# Altium integrated library ECE-Old.IntLib: 107 symbols
Pins are listed as number, name and electrical type; pins without a type are passive.

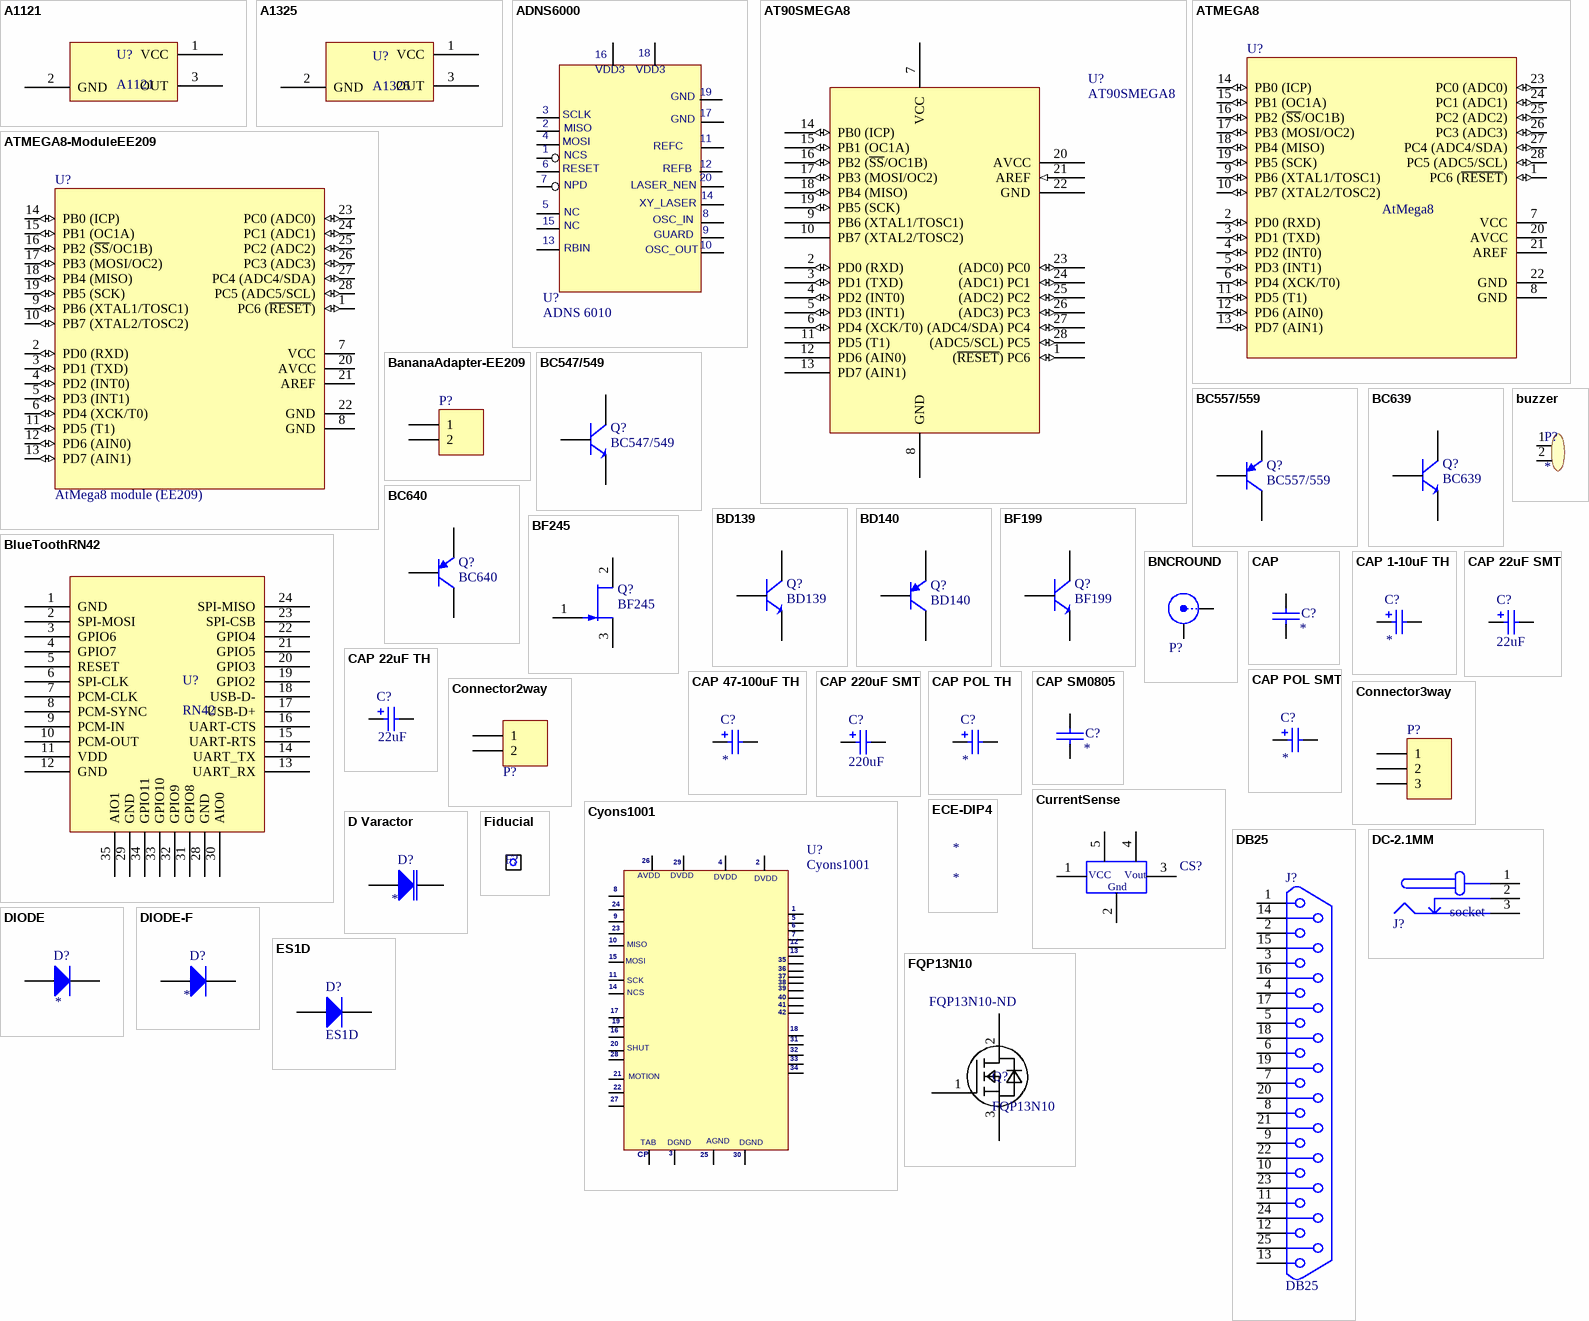
[diagram p0: symbols A1121 to FQP13N10]

## A1121
designator U?
Chopper Stabilized Precision Hall Effect Switches
signal-integrity model A1121 (Digital Hall effect sensor)
footprint ECE-UA3
pins: 1 VCC (power), 2 GND (power), 3 OUT (oc)

## A1325
designator U?
Low Noise, Linear Hall Effect Sensor ICs with Analog Output
footprint ECE-UA3
pins: 1 VCC (power), 2 GND (power), 3 OUT (oc)

## ADNS6000
designator U?, comment ADNS 6010
Avago Laser Sensor; value: ADNS 6010
footprint ece-A6010 (ADNS6010)
pins: 1, 2, 3, 4, 5, 6, 7, 8, 9, 10, 11, 12, 13, 14, 15, 16, 17, 18, 19, 20
text: VDD3; GND; SCLK; MISO; MOSI; REFC; NCS; RESET; REFB; NPD; LASER_NEN; XY_LASER; NC; OSC_IN; GUARD; RBIN; OSC_OUT

## AT90SMEGA8
designator U?
Atmel Micro; Value: AT90SMEGA8
footprint ece-DIP28
pins: 1 (~{RESET}) PC6 (io), 2 PD0 (RXD) (io), 3 PD1 (TXD) (io), 4 PD2 (INT0) (io), 5 PD3 (INT1) (io), 6 PD4 (XCK/T0) (io), 7 VCC, 8 GND, 9 PB6 (XTAL1/TOSC1), 10 PB7 (XTAL2/TOSC2), 11 PD5 (T1), 12 PD6 (AIN0), 13 PD7 (AIN1), 14 PB0 (ICP) (io), 15 PB1 (OC1A) (io), 16 PB2 (~{SS}/OC1B) (io), 17 PB3 (MOSI/OC2) (io), 18 PB4 (MISO) (io), 19 PB5 (SCK) (io), 20 AVCC, 21 AREF (in), 22 GND, 23 (ADC0) PC0 (io), 24 (ADC1) PC1 (io), 25 (ADC2) PC2 (io), 26 (ADC3) PC3 (io), 27 (ADC4/SDA) PC4 (io), 28 (ADC5/SCL) PC5 (io)

## ATMEGA8
designator U?, comment AtMega8
Atmel Micro; Value: AtMega8
footprint ece-DIP28
pins: 1 PC6 (~{RESET}) (io), 2 PD0 (RXD) (io), 3 PD1 (TXD) (io), 4 PD2 (INT0) (io), 5 PD3 (INT1) (io), 6 PD4 (XCK/T0) (io), 7 VCC (power), 8 GND (power), 9 PB6 (XTAL1/TOSC1) (io), 10 PB7 (XTAL2/TOSC2) (io), 11 PD5 (T1) (io), 12 PD6 (AIN0) (io), 13 PD7 (AIN1) (io), 14 PB0 (ICP) (io), 15 PB1 (OC1A) (io), 16 PB2 (~{SS}/OC1B) (io), 17 PB3 (MOSI/OC2) (io), 18 PB4 (MISO) (io), 19 PB5 (SCK) (io), 20 AVCC (power), 21 AREF, 22 GND (power), 23 PC0 (ADC0) (io), 24 PC1 (ADC1) (io), 25 PC2 (ADC2) (io), 26 PC3 (ADC3) (io), 27 PC4 (ADC4/SDA) (io), 28 PC5 (ADC5/SCL) (io)

## ATMEGA8-ModuleEE209
designator U?, comment ATMEGA8 module (EE209)
Atmel Micro; Value: AtMega8 module (EE209)
footprint MEGA8 MODULE
pins: 1 PC6 (~{RESET}) (io), 2 PD0 (RXD) (io), 3 PD1 (TXD) (io), 4 PD2 (INT0) (io), 5 PD3 (INT1) (io), 6 PD4 (XCK/T0) (io), 7 VCC (power), 8 GND (power), 9 PB6 (XTAL1/TOSC1) (io), 10 PB7 (XTAL2/TOSC2) (io), 11 PD5 (T1) (io), 12 PD6 (AIN0) (io), 13 PD7 (AIN1) (io), 14 PB0 (ICP) (io), 15 PB1 (OC1A) (io), 16 PB2 (~{SS}/OC1B) (io), 17 PB3 (MOSI/OC2) (io), 18 PB4 (MISO) (io), 19 PB5 (SCK) (io), 20 AVCC (power), 21 AREF, 22 GND (power), 23 PC0 (ADC0) (io), 24 PC1 (ADC1) (io), 25 PC2 (ADC2) (io), 26 PC3 (ADC3) (io), 27 PC4 (ADC4/SDA) (io), 28 PC5 (ADC5/SCL) (io)

## BananaAdapter-EE209
designator P?  (value not drawn)
Header, 2-Pin; LatestRevisionDate: 17-Jul-2002; LatestRevisionNote: Re-released for DXP Platform.; Publisher: Altium Limited
signal-integrity model Connector
footprint BannanaAdapter (Connector; 2 Position)
pins: 1, 2

## BC547/549
designator Q?
NPN Transistor; Value: BC547/549
footprint ece-TO-92
footprint ece-TO-92Z
pins: 1 C, 2 B, 3 E

## BC557/559
designator Q?
PNP Transistor; Value: BC557/559
footprint ece-TO-92
footprint ece-TO-92Z
pins: 1 C, 2 B, 3 E

## BC639
designator Q?
NPN Transistor; Value: BC639
footprint ece-TO-92
footprint ece-TO-92Z
footprint Model Name (Model Description)
footprint ECE-Transistor (BC639-flat)
pins: 1 E, 2 C, 3 B

## BC640
designator Q?
PNP Transistor; Value: BC640
footprint ece-TO-92
footprint ece-TO-92Z
pins: 1 E, 2 C, 3 B

## BD139
designator Q?
NPN Transistor; Value: BD139
footprint ece-SOT-32 (SIP with Mounting Hole; 3 Leads; Body 10.7 x 7.6 x 2.6 mm (typ); Pitch 2.2 mm)
pins: 1 E, 2 C, 3 B

## BD140
designator Q?
PNP Transistor; Value: BD140
footprint ece-SOT-32 (SIP with Mounting Hole; 3 Leads; Body 10.7 x 7.6 x 2.6 mm (typ); Pitch 2.2 mm)
pins: 1 E, 2 C, 3 B

## BF199
designator Q?
NPN Transistor; Value: BF199
footprint ece-SOT-32 (SIP with Mounting Hole; 3 Leads; Body 10.7 x 7.6 x 2.6 mm (typ); Pitch 2.2 mm)
pins: 1, 2, 3

## BF245
designator Q?
N channel SFET; Value: BF245
footprint ece-TO-92
pins: 1 G, 2 D, 3 S

## BlueToothRN42
designator U?, comment RN42
Value: RN42
footprint ECE-RN42
pins: 1 GND, 2 SPI-MOSI, 3 GPIO6, 4 GPIO7, 5 RESET, 6 SPI-CLK, 7 PCM-CLK, 8 PCM-SYNC, 9 PCM-IN, 10 PCM-OUT, 11 VDD, 12 GND, 13 UART_RX, 14 UART_TX, 15 UART-RTS, 16 UART-CTS, 17 USB-D+, 18 USB-D-, 19 GPIO2, 20 GPIO3, 21 GPIO5, 22 GPIO4, 23 SPI-CSB, 24 SPI-MISO, 28 GND, 29 GND, 30 AIO0, 31 GPIO8, 32 GPIO9, 33 GPIO10, 34 GPIO11, 35 AIO1

## BNCROUND
designator P?, comment BNC  (value not drawn)
BNC Round Socket; Value: BNC
footprint ece-BNC_ROUND
pins: 1 X, 2 Y

## buzzer
designator P?
footprint ece-buzzer
pins: 1, 2

## CAP
designator C?
Capacitor Non Polarised Through Hole; Value: *
footprint ece-RAD0.1
footprint ece-RAD0.2
pins: 1, 2

## CAP 1-10uF TH
designator C?
Polarized Capacitor (Radial); Manufacturer: Generic Components; Class I: Passive; Published: 8-Jun-2000; Revision: July-2002: Re-released for DXP Platform.; Publisher: Altium Limited; Class II: Capacitor; Value: *
simulation model CAP (Capacitor)
signal-integrity model Cap Pol
footprint ece-RAD-CAP--5X6.8 (Cap 5 X 6.8)
pins: 1, 2

## CAP 22uF SMT
designator C?, comment 22uF
Surface Mount Capacitor; Value: 22uF
footprint ece-CAPAE66X54 (Aluminium Electrolytic Case D)
pins: 1, 2

## CAP 22uF TH
designator C?, comment 22uF
Polarized Capacitor (Radial); Manufacturer: Generic Components; Class I: Passive; Published: 8-Jun-2000; Revision: July-2002: Re-released for DXP Platform.; Publisher: Altium Limited; Class II: Capacitor; Value: 22uF
simulation model CAP (Capacitor)
signal-integrity model Cap Pol
footprint ece-CAPAD2TH0.3
pins: 1, 2

## CAP 47-100uF TH
designator C?
Polarized Capacitor Through Hole; Manufacturer: Generic Components; Class I: Passive; Published: 8-Jun-2000; Revision: July-2002: Re-released for DXP Platform.; Publisher: Altium Limited; Class II: Capacitor; Value: *
simulation model CAP (Capacitor)
signal-integrity model Cap Pol
footprint ece-CAPAD2TH0.3
pins: 1, 2

## CAP 220uF SMT
designator C?, comment 220uF
220uF SMT capacitor; Value: 220uF
footprint ece-CAPAE103X102 (Aluminium Electrolytic Case G)
pins: 1, 2

## CAP POL SMT
designator C?
Polarized Capacitor Surface Mount; Manufacturer: Generic Components; Class I: Passive; Published: 8-Jun-2000; Revision: July-2002: Re-released for DXP Platform.; Publisher: Altium Limited; Class II: Capacitor; Value: *
footprint ece-CAPAE43X54 (Aluminium Electrolytic Case B)
footprint ece-CAPAE66X54 (Aluminium Electrolytic Case D)
footprint ece-CAPAE83X10 (Aluminium Electrolytic Case F)
footprint ece-CAPAE103X12 (Aluminium Electrolytic Case G)
pins: 1, 2

## CAP POL TH
designator C?
Polarized Capacitor (Radial); Manufacturer: Generic Components; Class I: Passive; Published: 8-Jun-2000; Revision: July-2002: Re-released for DXP Platform.; Publisher: Altium Limited; Class II: Capacitor; Value: *
simulation model CAP (Capacitor)
signal-integrity model Cap Pol
footprint ece-RAD-CAP-7.5-16X35
footprint ece-RAD-CAP--5X6.8 (Cap 5 X 6.8)
footprint ece-R0.2/0.4
pins: 1, 2

## CAP SM0805
designator C?
SM capacitor; Value: *
footprint ece-CC2012-0805 (SM capacitor 0805)
pins: 1, 2

## Connector2way
designator P?  (value not drawn)
2 way screw connector
footprint ece-TER-2.02
pins: 1, 2

## Connector3way
designator P?  (value not drawn)
Header, 3-Pin; LatestRevisionDate: 17-Jul-2002; LatestRevisionNote: Re-released for DXP Platform.; Publisher: Altium Limited
signal-integrity model Connector
footprint ece-TER3-0.2 (3 way screw terminal)
pins: 1, 2, 3

## CurrentSense
designator CS?  (value not drawn)
footprint ece-CB-PFF
pins: 1 Vcc, 2 Gnd, 3 Vout, 4 IP+, 5 IP-
text: VCC

## Cyons1001
designator U?
Optical Laser Sensor; Value: Cyons1001
footprint ece-PQFN52
pins: 1, 2, 3, 4, 5, 6, 7, 8, 9, 10, 11, 12, 13, 14, 15, 16, 17, 18, 19, 20, 21, 22, 23, 24, 25, 26, 27, 28, 29, 30, 31, 32, 33, 34, 35, 36, 37, 38, 39, 40, 41, 42, TAB
text: AVDD; DVDD; MISO; MOSI; SCK; NCS; SHUT; MOTION; DGND; AGND; CP

## D Varactor
designator D?
Value: *
footprint ece-VARACTOR
pins: 1 K, 3 A

## DB25
designator J?
Value: DB25
footprint ece-DB25P-EDGE
footprint Model Name (Model Description)
pins: 1, 2, 3, 4, 5, 6, 7, 8, 9, 10, 11, 12, 13, 14, 15, 16, 17, 18, 19, 20, 21, 22, 23, 24, 25

## DC-2.1MM
designator J?, comment socket
DC socket; Value: socket
footprint ece-DC-POWER
pins: 1 VCC (power) "Common VCC", 2 GND_ALT (power) "Alternate Supply Ground", 3 GND (power) "Common Ground"

## DIODE
designator D?
High Conductance Fast Diode; Manufacturer: Fairchild Semiconductor; Revision 1: 11-July-2000: SIM Model Added.; Revision 2: July-2002: Re-released for DXP Platform.; Class I: Discrete; Class II: Diode - Switching; Published: 8-Jun-2000; Datasheet: Latest Revision: 1997; Package Reference: DO-35; Publisher: Altium Limited; Value: *
footprint ece-DIODE0.4
pins: 1 A, 2 K

## DIODE-F
designator D?
free wheeling diode; Value: *
footprint ece-DIODE-0.4F (free wheeling diode)
pins: 1 A, 2 K

## ECE-DIP4
designator *

## ES1D
designator D?
Ultrafast Revovery Diode; Value: ES1D
footprint ece-DO214 (SM dioide)
pins: 1 A, 2 K

## Fiducial
designator F?  (value not drawn)
Socket; LatestRevisionDate: 17-Jul-2002; LatestRevisionNote: Re-released for DXP Platform.; Publisher: Altium Limited
footprint Fiducial

## FQP13N10
designator Q?  Supplier Part Number 1: FQP13N10-ND
N channel MOSFET; Supplier 2: Digi-Key; Supplier Part Number 2: FQP13N10-ND; datasheet: H:\ELECTENG 311\HBridge\FQP13N10.pdf; Supplier 1: Digi-Key
footprint ece-TO220
pins: 1 G "Gate", 2 D "Drain", 3 S "source"

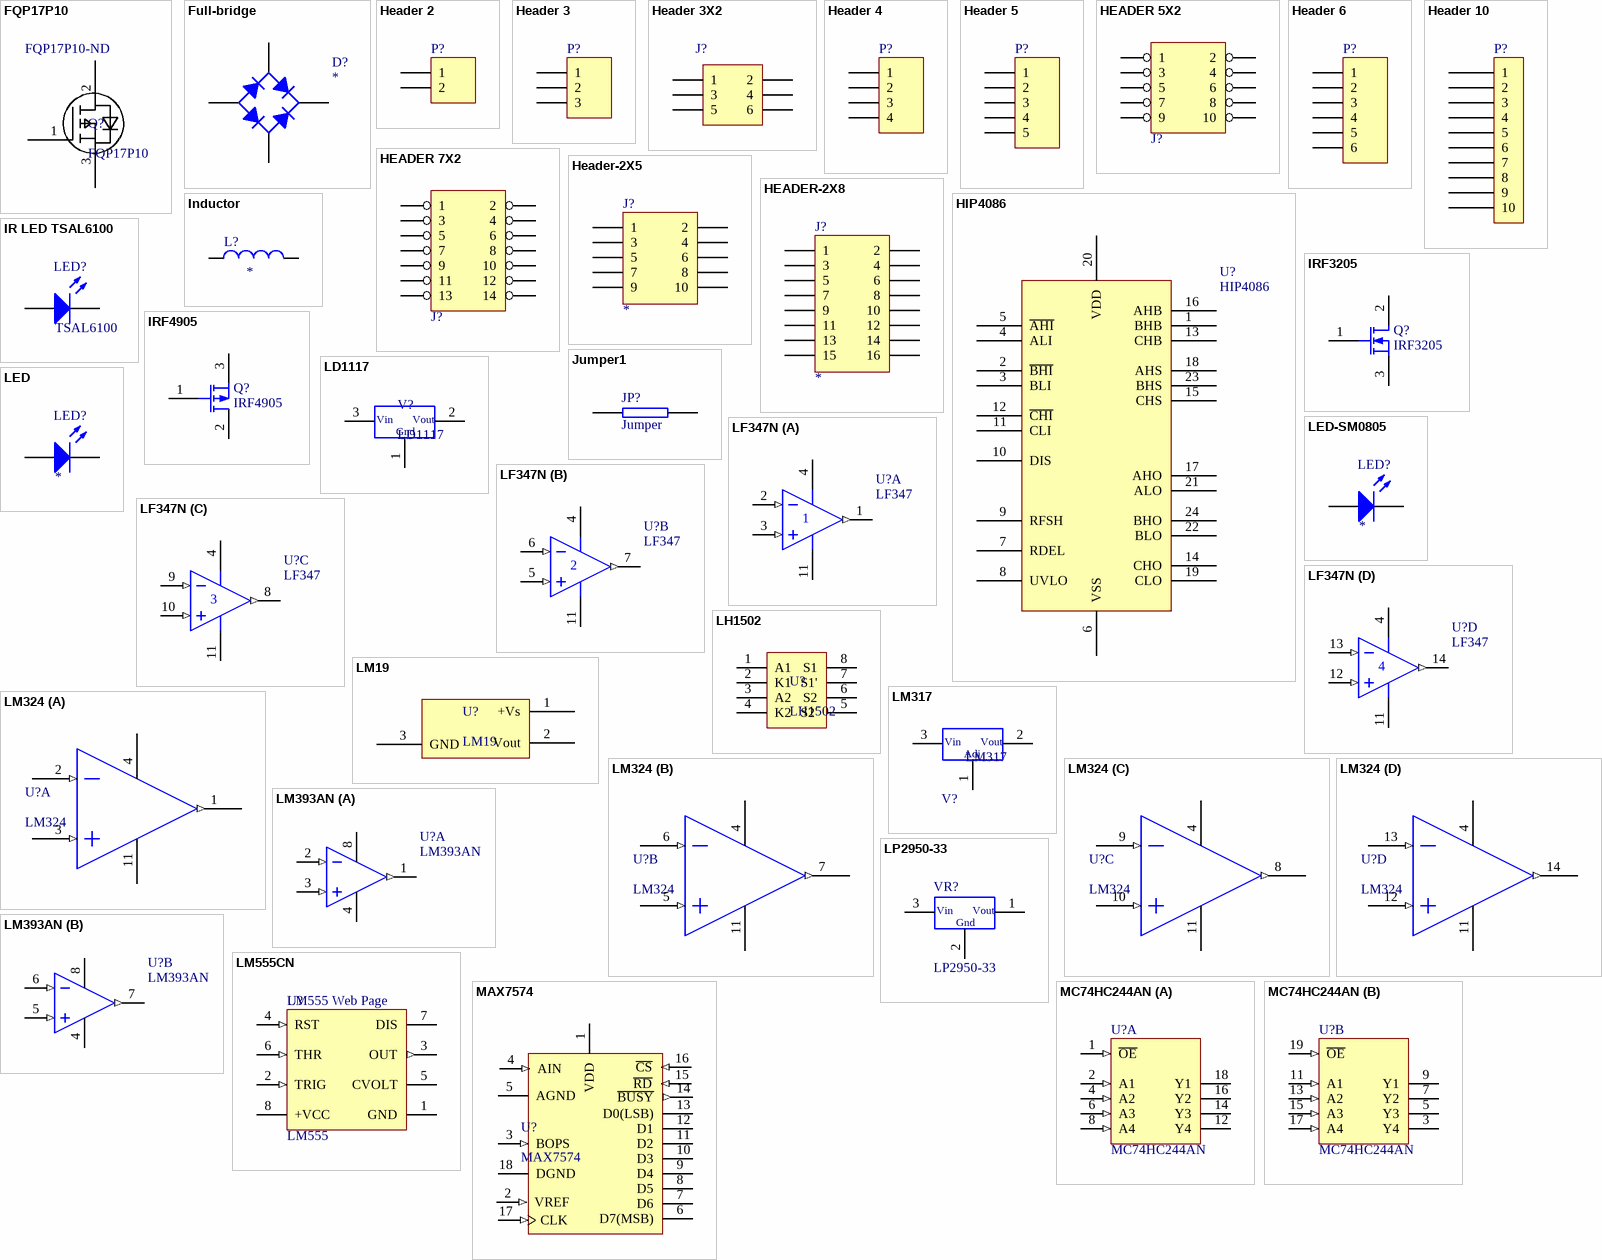
[diagram p1: symbols FQP17P10 to MC74HC244AN]

## FQP17P10
designator Q?  Supplier Part Number 1: FQP17P10-ND
P channel MOSFET; DataSheet: H:\ELECTENG 311\HBridge\FQP17P10.pdf; Supplier 1: Digi-Key
footprint ece-TO220
pins: 1 G, 2 D, 3 S

## Full-bridge
designator D?
bridge rectifier; Value: *
footprint ece-bridge8A (D?)
pins: 1 A, 2 C, 3 C, 4 K

## Header 2
designator P?
Header, 2-Pin; LatestRevisionDate: 17-Jul-2002; LatestRevisionNote: Re-released for DXP Platform.; Publisher: Altium Limited
signal-integrity model Connector
footprint ece-HDR1X2 (Header 2 way)
pins: 1, 2

## Header 3
designator P?
Header, 3-Pin; LatestRevisionDate: 17-Jul-2002; LatestRevisionNote: Re-released for DXP Platform.; Publisher: Altium Limited
signal-integrity model Connector
footprint ece-HDR1X3 (Header 3 way)
pins: 1, 2, 3

## Header 3X2
designator J?  (value not drawn)
footprint ECE-BHDR2X3
pins: 1, 2, 3, 4, 5, 6

## Header 4
designator P?
Header, 4-Pin; LatestRevisionDate: 17-Jul-2002; LatestRevisionNote: Re-released for DXP Platform.; Publisher: Altium Limited
signal-integrity model Connector
footprint ece-HDR1X4 (Header 4 way)
pins: 1, 2, 3, 4

## Header 5
designator P?
Header, 5-Pin; LatestRevisionDate: 17-Jul-2002; LatestRevisionNote: Re-released for DXP Platform.; Publisher: Altium Limited
signal-integrity model Connector
footprint ece-HDR1X5 (Header 5 way)
pins: 1, 2, 3, 4, 5

## HEADER 5X2
designator J?, comment HEADER2X5  (value not drawn)
header 10 pin
footprint ece-BHDR-2X5
pins: 1, 2, 3, 4, 5, 6, 7, 8, 9, 10

## Header 6
designator P?
Header, 6-Pin; LatestRevisionDate: 17-Jul-2002; LatestRevisionNote: Re-released for DXP Platform.; Publisher: Altium Limited
signal-integrity model Connector
footprint ece-HDR1X6 (Header 6 way)
pins: 1, 2, 3, 4, 5, 6

## HEADER 7X2
designator J?  (value not drawn)
header 10 pin
footprint ece-BHDR-2X7
footprint Model Name (Model Description)
pins: 1, 2, 3, 4, 5, 6, 7, 8, 9, 10, 11, 12, 13, 14

## Header 10
designator P?
Header, 10-Pin
footprint ECE-600110STTH (Polarised Header 10 way)
pins: 1, 2, 3, 4, 5, 6, 7, 8, 9, 10

## Header-2X5
designator J?
header
footprint ece-BHDR-2X5
pins: 1, 2, 3, 4, 5, 6, 7, 8, 9, 10

## HEADER-2X8
designator J?
header
footprint ece-BHDR-2X8
pins: 1, 2, 3, 4, 5, 6, 7, 8, 9, 10, 11, 12, 13, 14, 15, 16

## HIP4086
designator U?
Three Phase Mosfet Bootstrap Driver; Value: HIP4086
footprint ece-SOIC24
footprint ece-DIP24
pins: 1 BHB, 2 ~{BHI}, 3 BLI, 4 ALI, 5 ~{AHI}, 6 VSS, 7 RDEL, 8 UVLO, 9 RFSH, 10 DIS, 11 CLI, 12 ~{CHI}, 13 CHB, 14 CHO, 15 CHS, 16 AHB, 17 AHO, 18 AHS, 19 CLO, 20 VDD, 21 ALO, 22 BLO, 23 BHS, 24 BHO

## Inductor
designator L?
inductor Surface Mount; Value: *
footprint ece-INDUCTOR1005
pins: 1, 2

## IR LED TSAL6100
designator LED?, comment TSAL6100
Typical INFRARED GaAs LED; Manufacturer: Generic Components; Class I: Optoelectronic; Published: 8-Jun-2000; Revision: July-2002: Re-released for DXP Platform.; Publisher: Altium Limited; Class II: LED; Value: *
simulation model LED0 (Diode)
footprint ece-LED
pins: 1 A, 2 K

## IRF3205
designator Q?
N MOSFET 55V; Value: IRF3205
footprint ece-TO220
pins: 1 G, 2 D, 3 S

## IRF4905
designator Q?
P MOSFET 55V 74A; Value: IRF4905
footprint ece-TO220
pins: 1 G, 2 D, 3 S

## Jumper1
designator JP?, comment Jumper
Axial jumper
footprint ece-JUMPER (JUMPER)
pins: 1, 2

## LD1117
designator V?
LDO Voltage Regulator; Value: LD1117
footprint ECE-SOT223
pins: 1 Gnd, 2 Vout, 3 Vin

## LED
designator LED?
Typical INFRARED GaAs LED; Manufacturer: Generic Components; Class I: Optoelectronic; Published: 8-Jun-2000; Revision: July-2002: Re-released for DXP Platform.; Publisher: Altium Limited; Class II: LED; Value: *
simulation model LED0 (Diode)
footprint ece-LED
pins: 1 A, 2 K

## LED-SM0805
designator LED?
SMT LED; Manufacturer: Generic Components; Class I: Optoelectronic; Published: 8-Jun-2000; Revision: July-2002: Re-released for DXP Platform.; Publisher: Altium Limited; Class II: LED; Value: *
simulation model LED0 (Diode)
footprint ECE-LED2012-0805SM (SMD LED, Body; 2mm x 1.25 mm (LxW))
pins: 1 A, 2 K

## LF347N
designator U?, comment LF347
Quad JFET Input Operational Amplifier, Internally Compensated; Published: 17-Jul-2002; LatestRevisionDate: 06-Jun-2005; LatestRevisionNote: Stylized 3D Model Added.; DatasheetVersion: 1996; PackageVersion: 1997; PackageReference: 646-06; Publisher: Altium Limited; PackageDescription: DIP; 14 Leads; Row Spacing 7.62 mm; Pitch 2.54 mm; ComponentLink1Description: Manufacturer Link; ComponentLink1URL: http://www.onsemi.com/site/products/parametrics/0,4446,251,00.html
footprint ECE-DIP14 (DIP 14)
pins on every part: 4 V+ (power), 11 V- (power)
part A pins: 1 OUT (out), 2 IN- (in), 3 IN+ (in)
part B pins: 5 IN+ (in), 6 IN- (in), 7 OUT (out)
part C pins: 8 OUT (out), 9 IN- (in), 10 IN+ (in)
part D pins: 12 IN+ (in), 13 IN- (in), 14 OUT (out)

## LH1502
designator U?
Value: LH1502
footprint ECE-SMD8
pins: 1 A1, 2 K1, 3 A2, 4 K2, 5 S2', 6 S2, 7 S1', 8 S1

## LM19
designator U?
Temperature sensor; Value: LM19
footprint ece-TO-92Z; pin to pad 1>3 3>1
pins: 1 +Vs (power), 2 Vout (oc), 3 GND (power)

## LM317
designator V?
Voltage regulator LM317; Value: LM317
footprint ece-TO220
pins: 1 Adj, 2 Vout, 3 Vin

## LM324
designator U?
Value: LM324
footprint ECE-DIP14 (DIP 14)
pins on every part: 4 VCC (power), 11 GND (power)
part A pins: 1 OUT1 (out), 2 IN1(-) (in), 3 IN1(+) (in)
part B pins: 5 IN2+) (in), 6 IN2(-) (in), 7 OUT2 (out)
part C pins: 8 OUT3 (out), 9 IN3(-) (in), 10 IN3(+) (in)
part D pins: 12 IN4(+) (in), 13 IN4(-) (in), 14 OUT4 (out)

## LM393AN
designator U?
Dual Comparator; Published: 17-Jul-2002; LatestRevisionDate: 06-Jun-2005; LatestRevisionNote: Stylized 3D Model Added.; DatasheetVersion: 1988; PackageReference: 626-05; Publisher: Altium Limited; PackageDescription: DIP; 8 Leads; Row Spacing 7.62 mm; Pitch 2.54 mm; ComponentLink1Description: Manufacturer Link; ComponentLink1URL: http://www.onsemi.com/site/products/taxonomy/0,4438,133,00.html
footprint ECE-DIP8
pins on every part: 4 GND (power), 8 V+ (power)
part A pins: 1 OUT (out), 2 IN- (in), 3 IN+ (in)
part B pins: 5 IN+ (in), 6 IN- (in), 7 OUT (out)

## LM555CN
designator U?, comment LM555  ComponentLink2Description: LM555 Web Page
Timer; PartNumber: LM555CN; Manufacturer: National Semiconductor; CompType: Analog IC; PackageTopMarking: NSUZXYTT*LM*555CN; PowerWise: N; Published: 4-Dec-2008; DatasheetVersion: Jul-2006; PackageVersion: revG, May-2006; PackageDescription: MDIP, .365 x .250 x .130in, 8 Lead, .100in Pitch; PinCount: 8; DigiKeyPartNumber: LM555CNNS-ND; Code_JEDEC: MS-001-BA; ComponentLink1Description: LM555 Datasheet; ComponentLink1URL: http://www.national.com/ds.cgi/LM/LM555.pdf; ComponentLink2URL: http://www.national.com/pf/LM/LM555.html; ComponentLink3Description: N08E package page; ComponentLink3URL: http://www.national.com/packaging/folders/n08e.html
footprint ECE-DIP8
pins: 1 GND (power), 2 TRIG (in), 3 OUT (out), 4 RST (in), 5 CVOLT, 6 THR (in), 7 DIS (oc), 8 +VCC (power)

## LP2950-33
designator VR?
Voltage Regulator
footprint ECE-TO-92
pins: 1 Vout, 2 Gnd, 3 Vin

## MAX7574
designator U?
Value: MAX7574
footprint ECE-DIP18
pins: 1 VDD (power), 2 VREF (in), 3 BOPS (in), 4 AIN (in), 5 AGND (power), 6 D7(MSB) (hiz), 7 D6 (hiz), 8 D5 (hiz), 9 D4 (hiz), 10 D3 (hiz), 11 D2 (hiz), 12 D1 (hiz), 13 D0(LSB) (hiz), 14 ~{BUSY} (out), 15 ~{RD} (in), 16 ~{CS} (in), 17 CLK (in), 18 DGND (power)

## MC74HC244AN
designator U?
Octal 3-State Non-Inverting Buffer/Line Driver/Line Receiver; Manufacturer: ON Semiconductor; Class I: Logic; Published: 15-Apr-2002; Datasheet: Latest Revision: Mar-2000; Package Reference: 738-03; Publisher: Altium Limited; Class II: Buffer/Line Driver; Value: MC74HC244AN
signal-integrity model MC74HC244AN
footprint ece-DIP-20
pins on every part: 10 GND (power) hidden to GND, 20 VDD (power) hidden to VDD
part A pins: 1 ~{OE} (in), 2 A1 (in), 4 A2 (in), 6 A3 (in), 8 A4 (in), 12 Y4 (hiz), 14 Y3 (hiz), 16 Y2 (hiz), 18 Y1 (hiz)
part B pins: 3 Y4 (hiz), 5 Y3 (hiz), 7 Y2 (hiz), 9 Y1 (hiz), 11 A1 (in), 13 A2 (in), 15 A3 (in), 17 A4 (in), 19 ~{OE} (in)

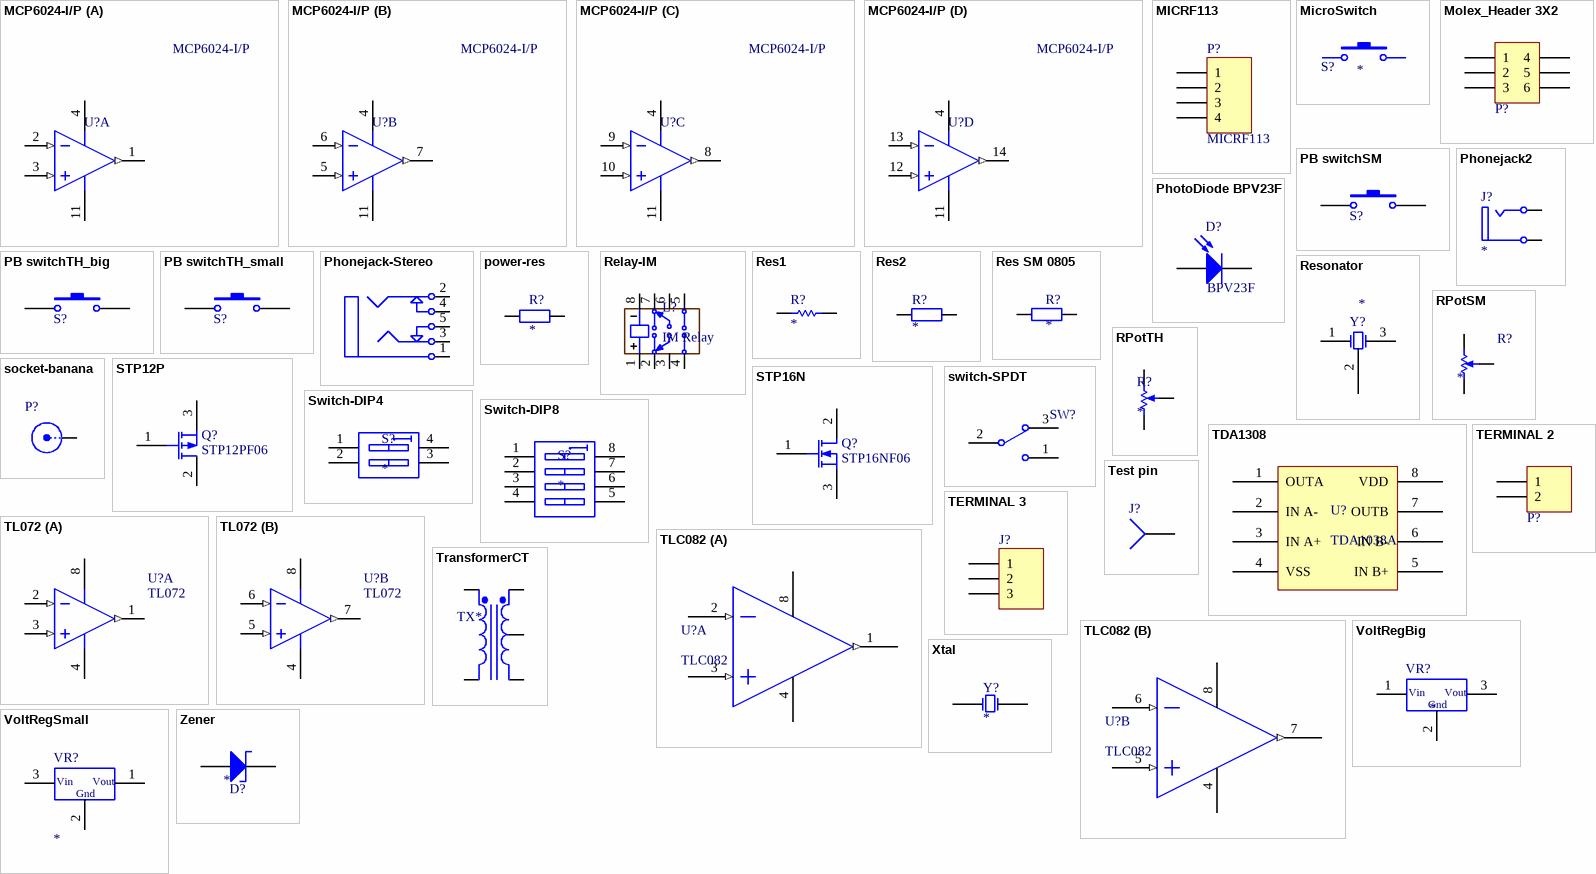
[diagram p2: symbols MCP6024-I/P to Zener]

## MCP6024-I/P
designator U?
Rail-to-Rail Input/Output, 10 MHz Operational Amplifier, 14-Pin PDIP, Industrial Temperature; FirstPublished: 29-Jan-2009; LatestRevisionDate: 02-Dec-2009; LatestRevisionNote: Updated to datasheet revision D, Feb-2009; DatasheetVersion: revD, Feb-2009; PackageVersion: revBB, Aug-2009; PackageReference: PDIP300-P14; Publisher: Altium Limited; PackageDescription: 14-Lead Plastic Dual In-Line (P) - 300 mil Body [PDIP]; Supplier 1: Digi-Key; Supplier Part Number 1: MCP6024-I/P-ND; Supplier 2: Farnell; Supplier Part Number 2: 1627199; Supplier 3: Newark; Supplier Part Number 3: 73K1004; ComponentLink1Description: Datasheet; ComponentLink1URL: http://ww1.microchip.com/downloads/en/DeviceDoc/21685d.pdf; ComponentLink2Description: Packaging Specification; ComponentLink2URL: http://www.microchip.com/stellent/groups/techpub_sg/documents/packagingspec/en012702.pdf; ComponentLink3Description: Microchip.com Home; ComponentLink3URL: http://www.microchip.com/
footprint ECE-DIP14 (DIP 14)
pins on every part: 4 VDD (power), 11 VSS (power)
part A pins: 1 VOUTA (out), 2 VINA- (in), 3 VINA+ (in)
part B pins: 5 VINB+ (in), 6 VINB- (in), 7 VOUTB (out)
part C pins: 8 VOUTC (out), 9 VINC- (in), 10 VINC+ (in)
part D pins: 12 VIND+ (in), 13 VIND- (in), 14 VOUTD (out)

## MICRF113
designator P?
Header, 4-Pin; LatestRevisionDate: 17-Jul-2002; LatestRevisionNote: Re-released for DXP Platform.; Publisher: Altium Limited
signal-integrity model Connector
footprint MICRF113 TX
pins: 1, 2, 3, 4

## MicroSwitch
designator S?
Limit switch; Value: *
footprint ece-microswitch-rotate
footprint ece-micro-switch

## Molex_Header 3X2
designator P?, comment Molex  (value not drawn)
Molex 3X2 header
footprint ece-MOLEX-3x2 (series 43045)
pins: 1, 2, 3, 4, 5, 6

## PB switchSM
designator S?  (value not drawn)
Push button surface mount
footprint ece-SW-SM
pins: 1, 2

## PB switchTH_big
designator S?  (value not drawn)
Push Button Switch thru hole
footprint ece-SW-large
pins: 1, 2

## PB switchTH_small
designator S?  (value not drawn)
Push Button Switch thru hole
footprint ece-Sw-small
pins: 1, 2

## Phonejack2
designator J?
footprint ece-PHONEJACK/6-V2
pins: 1 T "Tip", 2 S "Sleeve (Ground)"

## Phonejack-Stereo
designator J?, comment Phonejack Stereo  (value not drawn)
footprint ECE-phonejackStereo
pins: 1, 2, 3, 4, 5

## PhotoDiode BPV23F
designator D?, comment BPV23F
Typical INFRARED GaAs LED; Manufacturer: Generic Components; Class I: Optoelectronic; Published: 8-Jun-2000; Revision: July-2002: Re-released for DXP Platform.; Publisher: Altium Limited; Class II: LED; Value: *
footprint BYV23F (Photodiode leaded)
pins: 1 A, 2 K

## power-res
designator R?
power-resistor; Value: *
footprint ece-axial83mm
footprint ece-radial5
footprint ece-Axial-60
pins: 1, 2

## Relay-IM
designator L?, comment IM Relay
Value: IM Relay
footprint ece-RelayIM
pins: 1, 2, 3, 4, 5, 6, 7, 8
1 alternate drawing of the same symbol

## Res1
designator R?
Resistor; Published: 8-Jun-2000; LatestRevisionDate: 17-Jul-2002; LatestRevisionNote: Re-released for DXP Platform.; PackageReference: AXIAL-0.3; Publisher: Altium Limited; Value: *
simulation model RESISTOR (Resistor)
signal-integrity model Res
footprint ece-AXIAL0.4
pins: 1, 2

## Res2
designator R?
Resistor; Published: 8-Jun-2000; LatestRevisionDate: 17-Jul-2002; LatestRevisionNote: Re-released for DXP Platform.; PackageReference: AXIAL-0.4; Publisher: Altium Limited; Value: *
simulation model RESISTOR (Resistor)
signal-integrity model Res
footprint ece-AXIAL0.4
pins: 1, 2

## Res SM 0805
designator R?
SM resistor; Value: *
footprint RESC2012-0805SM (Chip Resistor, Body 2.0x1.3mm, IPC Medium Density)
pins: 1, 2

## Resonator
designator Y?
Resonator/Oscillator; Manufacturer: Generic Components; Class II: Crystal Oscillator; Published: 8-Jun-2000; Revision: July-2002: Re-released for DXP Platform.; Publisher: Altium Limited; Class I: Oscillator; Value: *
simulation model XTAL (Spice Subcircuit)
footprint ece-HDR1X3 (Header 3 way)
footprint Model Name (Model Description)
pins: 1 OSC1, 2 Gnd, 3 OSC2

## RPotSM
designator R?
Variable Resistor Surface Mount; Value: *
footprint ece-VAR-RES-4MM-2
pins: CCW, CW, W

## RPotTH
designator R?
Variable Resistor Thru Hole; Value: *
footprint ece-VR0.1/1 (Variable Resistor)
footprint ece-VR0.1/2 (Variable Resistor)
footprint ece-VR0.1/3 (Variable Resistor)
footprint ece-VR0.1/4 (Variable Resistor)
footprint ece-VR0.1/5 (Variable Resistor)
footprint ece-VR0.1/6 (Variable Resistor)
footprint ece-VR0.5/1 (Variable Resistor)
pins: 1, 2, W

## socket-banana
designator P?  (value not drawn)
banana socket pcb mount
footprint ece-banana-socket (pcb mount banana socket)
pins: 1 X

## STP12P
designator Q?, comment STP12PF06
P channel MOSFET; Value: STP12PF06
footprint ece-TO220
footprint ece-TO220V
pins: 1 G, 2 D, 3 S

## STP16N
designator Q?, comment STP16NF06
N channel MOSFET; Value: STP16NF06
footprint ece-TO220
footprint ece-TO220V
pins: 1 G, 2 D, 3 S

## Switch-DIP4
designator S?
Value: *
footprint ECE-DIP4
pins: 1 A1, 2 A2, 3 A3, 4 A4

## Switch-DIP8
designator S?
Value: *
footprint ECE-DIP8
pins: 1 A1, 2 A2, 3 A3, 4 A4, 5 B4, 6 B3, 7 B2, 8 B1

## switch-SPDT
designator SW?, comment SW  (value not drawn)
PCB mountabel switch
footprint ece-sw-SPDT (PCB mountable spdt switch)
pins: 1, 2, 3

## TDA1308
designator U?, comment TDA1038A
Head Phone Driver; Value: TDA1038A
footprint ECE-SO8
pins: 1 OUTA, 2 IN A-, 3 IN A+, 4 VSS, 5 IN B+, 6 IN B-, 7 OUTB, 8 VDD

## TERMINAL 2
designator P?  (value not drawn)
Large 2 way screw connector
footprint ece-Molex-2pin (series 42820)
footprint ece-TER2-10MM
pins: 1, 2

## TERMINAL 3
designator J?  (value not drawn)
Large 3 way screw connector; Manufacturer: Generic Components; Revision: July-2002: Re-released for DXP Platform.; Publisher: Altium Limited; Class I: Connector
signal-integrity model Connector
footprint ece-Molex-3Pin (Series 42820)
footprint ece-TER3-10MM
pins: 1, 2, 3

## Test pin
designator J?
Socket; LatestRevisionDate: 17-Jul-2002; LatestRevisionNote: Re-released for DXP Platform.; Publisher: Altium Limited
signal-integrity model Connector
footprint ece-HDR1
pins: 1

## TL072
designator U?
Low-Noise JFET-Input Operational Amplifier; Published: 17-Jul-2002; LatestRevisionDate: 06-Jun-2005; LatestRevisionNote: Stylized 3D Model Added.; DatasheetVersion: 1988; PackageReference: 626-05; Publisher: Altium Limited; PackageDescription: DIP; 8 Leads; Row Spacing 7.62 mm; Pitch 2.54 mm; ComponentLink1Description: Manufacturer Link; ComponentLink1URL: http://www.onsemi.com/site/products/parametrics/0,4446,251,00.html
footprint ECE-DIP8
pins on every part: 4 V- (power), 8 V+ (power)
part A pins: 1 OUT (out), 2 IN- (in), 3 IN+ (in)
part B pins: 5 IN+ (in), 6 IN- (in), 7 OUT (out)

## TLC082
designator U?
Value: TLC082
footprint ECE-DIP8
part A pins: 1 OUT1 (out), 2 IN1(-) (in), 3 IN1(+) (in), 4 GND (power), 8 V(+) (power)
part B pins: 4 GND (power), 5 IN2(+) (in), 6 IN2(-) (in), 7 OUT2 (out), 8 V(+) (power)

## TransformerCT
designator TX*, comment Centre Tapped  (value not drawn)
footprint ECE-TRFCT (Transformer- 2 sec windings)
pins: 1 Pri+, 2 Pri-, 3 Sec+, 4 SecCT, 5 Sec-

## VoltRegBig
designator VR?
Voltage Regulator; Value: *
footprint ece-TO220
pins: 1 Vin, 2 Gnd, 3 Vout

## VoltRegSmall
designator VR?
Voltage Regulator; Value: *
footprint ece-TO-92
pins: 1 Vout, 2 Gnd, 3 Vin

## Xtal
designator Y?
Crystal Oscillator; Value: *
footprint ECE-Crystal
pins: 1 OSC1, 2 OSC2

## Zener
designator D?
Zener Diode; Value: *
footprint ece-DIODE0.4
pins: 1 A, 2 K